# Altium integrated library G6SK-2F-TRDC3.IntLib: 1 symbol
Pins are listed as number, name and electrical type; pins without a type are passive.

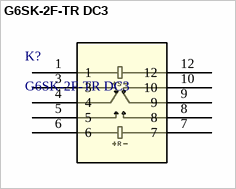
[diagram p0: symbol G6SK-2F-TR DC3]

## G6SK-2F-TR DC3
designator K?
Description; Manufacturer_Name: Omron; Copyright: Copyright (C) 2026 Ultra Librarian. All rights reserved.; Manufacturer_Part_Number: G6SK-2F-TR DC3; Type: Type; RefDes: RefDes
footprint RELAY_G6SK-2F DC3_OMR
pins: 1, 3, 4, 5, 6, 7, 8, 9, 10, 12
text: S; R